# Altium footprint library DXPpcb.PCBLIB: 575 footprints (part 13 of 36)
Each footprint in its own frame and in the unit in brackets; x right, y up, seen from the top. Pads: shape width x height; smd on the part's side, far side on the other; paste and mask are expansions set on the pad; w line width, h text height; cw(c..) or ccw(c..) is an arc to the next point about the centre after c.
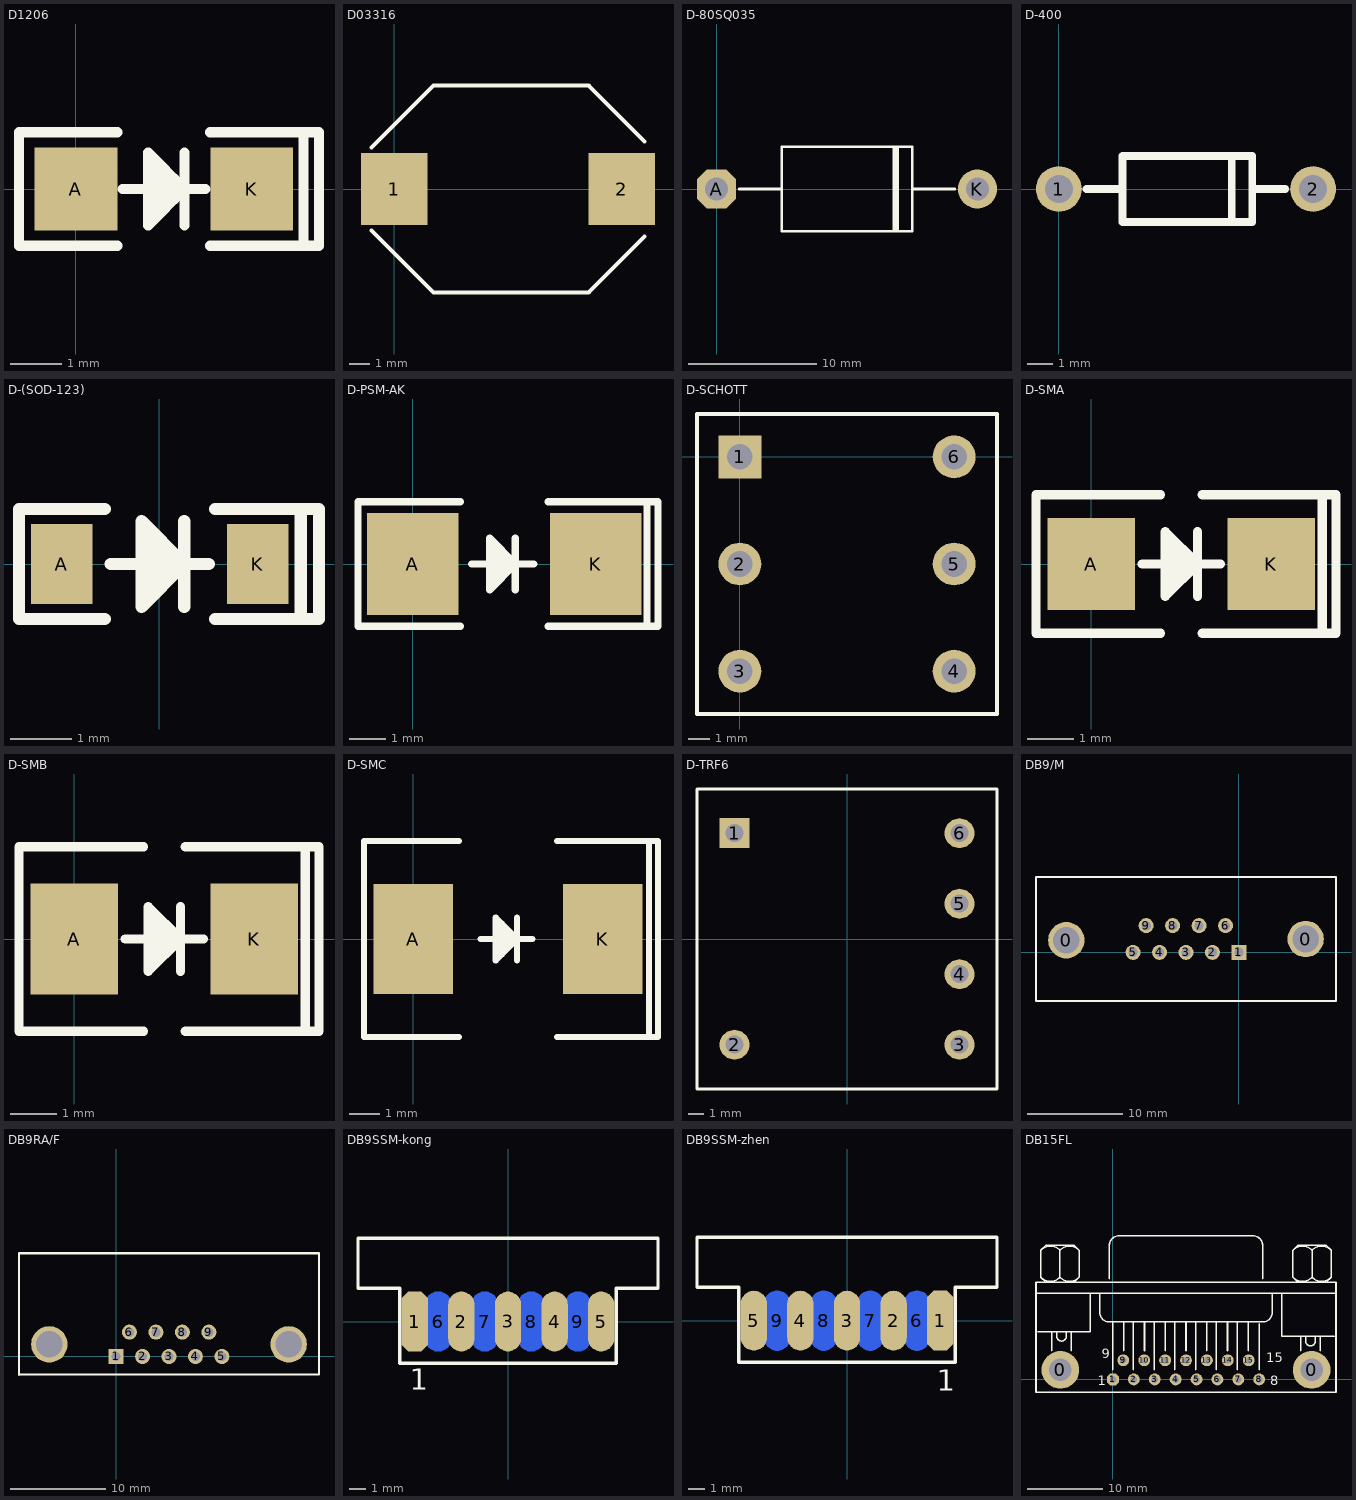
[diagram p12: the footprints below, top view; thin cyan lines are the x and y axes]

## D1206 [mm]
pads (2):
  rect 1.6x1.6 smd: A(0,0) K(3.4,0)
TopOverlay:
  lines w0.2: 0.8,-1.1 -1.1,-1.1 -1.1,1.1 0.8,1.1 ; 0.9,0 1.4,0 ; 1.6,-0.5 1.6,0.5 ; 1.8,-0.3 1.8,0.3 ; 1.9,-0.2 1.9,0.2 ; 2.1,-0.7 2.1,0.7 ; 2.5,0 2.1,0 ; 2.6,-1.1 4.7,-1.1 4.7,1.1 2.6,1.1 ; 4.4,-1.1 4.4,1.1 ; 1.4,0 1.4,-0.7 2.1,0 ; 1.4,0 1.4,0.7 2.1,0

## D03316 [mm]
pads (2):
  rect 3.2x3.5 smd: 1(0,0) 2(11,0)
TopOverlay:
  lines w0.2: -1.1,-2 1.9,-5 9.4,-5 12.1,-2.3 ; -1.1,2 1.9,5 9.4,5 12.1,2.3

## D-80SQ035 [mil]
pads (2):
  oct 120x120 hole 70: A(0,0)
  round 120 hole 70: K(800,0)
TopOverlay:
  rectangle: 540,-130 560,130
  lines w7.87: 70,0 200,0 ; 600,0 730,0 ; 200,-130 600,-130 600,130 200,130 200,-130

## D-400 [mm]
pads (2):
  round 1.8 hole 1.1: 1(0,0) 2(10,0)
TopOverlay:
  lines w0.3: 1.084,0 2.5,0 ; 6.8,-1.3 6.8,1.3 ; 7.6,0 8.9,0 ; 2.5,-1.3 7.6,-1.3 7.6,1.3 2.5,1.3 2.5,-1.3

## D-(SOD-123) [mm]
pads (2):
  rect 1x1.3 smd: A(-1.59,0.004) K(1.61,0.004)
TopOverlay:
  lines w0.2: -0.89,-0.896 -2.29,-0.896 -2.29,0.904 -0.89,0.904 ; -0.79,0.004 -0.29,0.004 ; -0.09,-0.496 -0.09,0.504 ; 0.11,-0.296 0.11,0.304 ; 0.21,-0.196 0.21,0.204 ; 0.41,-0.696 0.41,0.704 ; 0.81,0.004 0.41,0.004 ; 0.91,-0.896 2.61,-0.896 2.61,0.904 0.91,0.904 ; 2.31,-0.896 2.31,0.904 ; -0.29,0.004 -0.29,0.704 0.41,0.004 ; -0.29,0.004 -0.29,-0.696 0.41,0.004

## D-PSM-AK [mm]
pads (2):
  rect 2.5x2.8 smd: A(0,0) K(5,0)
TopOverlay:
  lines w0.2: 1.3,-1.7 -1.5,-1.7 -1.5,1.7 1.3,1.7 ; 1.6,0 2.1,0 ; 2.3,-0.5 2.3,0.5 ; 2.5,-0.3 2.5,0.3 ; 2.6,-0.2 2.6,0.2 ; 2.8,-0.7 2.8,0.7 ; 3.3,0 2.8,0 ; 3.7,-1.7 6.7,-1.7 6.7,1.7 3.7,1.7 ; 6.4,-1.7 6.4,1.7 ; 2.1,0 2.1,-0.7 2.8,0 ; 2.1,0 2.1,0.7 2.8,0

## D-SCHOTT [mm]
pads (6):
  rect 2x2 hole 1.2: 1(0,0)
  round 2 hole 1.2: 2(0,-5) 3(0,-10) 4(10,-10) 5(10,-5) 6(10,0)
TopOverlay:
  lines w0.2: -2,-12 12,-12 12,2 -2,2 -2,-12

## D-SMA [mm]
pads (2):
  rect 1.9x2 smd: A(0,0) K(3.9,0)
TopOverlay:
  lines w0.2: 1.1,0 1.6,0 ; 1.5,-1.5 -1.2,-1.5 -1.2,1.5 1.5,1.5 ; 1.8,-0.5 1.8,0.5 ; 2,-0.3 2,0.3 ; 2.1,-0.2 2.1,0.2 ; 2.3,-0.7 2.3,0.7 ; 2.4,-1.5 5.3,-1.5 5.3,1.5 2.4,1.5 ; 2.8,0 2.3,0 ; 5,-1.5 5,1.5 ; 1.6,0 1.6,-0.7 2.3,0 ; 1.6,0 1.6,0.7 2.3,0

## D-SMB [mm]
pads (2):
  rect 1.9x2.4 smd: A(0,0) K(3.9,0)
TopOverlay:
  lines w0.2: 1.1,0 1.6,0 ; 1.5,-2 -1.2,-2 -1.2,2 1.5,2 ; 1.8,-0.5 1.8,0.5 ; 2,-0.3 2,0.3 ; 2.1,-0.2 2.1,0.2 ; 2.3,-0.7 2.3,0.7 ; 2.4,-2 5.3,-2 5.3,2 2.4,2 ; 2.8,0 2.3,0 ; 5,-2 5,2 ; 1.6,0 1.6,0.7 2.3,0 ; 1.6,0 1.6,-0.7 2.3,0

## D-SMC [mm]
pads (2):
  rect 2.6x3.6 smd: A(0,0) K(6.2,0)
TopOverlay:
  lines w0.2: 1.5,-3.2 -1.6,-3.2 -1.6,3.2 1.5,3.2 ; 2.2,0 2.7,0 ; 2.9,-0.5 2.9,0.5 ; 3.1,-0.3 3.1,0.3 ; 3.2,-0.2 3.2,0.2 ; 3.4,-0.7 3.4,0.7 ; 3.9,0 3.4,0 ; 4.7,-3.2 8,-3.2 8,3.2 4.7,3.2 ; 7.7,-3.1 7.7,3.2 ; 2.7,0 2.7,0.7 3.4,0 ; 2.7,0 2.7,-0.7 3.4,0

## D-TRF6 [mm]
pads (6):
  rect 2x2 hole 1.2: 1(-7.5,7.05)
  round 2 hole 1.2: 2(-7.5,-7.05) 3(7.5,-7.05) 4(7.5,-2.35) 5(7.5,2.35) 6(7.5,7.05)
TopOverlay:
  lines w0.2: -10,-10 -10,10 10,10 10,-10 -10,-10

## DB9/M [mil]
pads (11):
  round 150 hole 110: 0(-711,50) 0(275,55)
  rect 62x62 hole 38: 1(0,0)
  round 62 hole 38: 2(-109,0) 3(-218,0) 4(-327,0) 5(-436,0) 6(-55,110) 7(-164,110) 8(-273,110) 9(-382,110)
TopOverlay:
  lines w7.87: -836,-200 -836,310 400,310 400,-200 -836,-200

## DB9RA/F [mil]
pads (11):
  rect 62x62 hole 38: 1(-0.09,-0.45)
  round 62 hole 38: 2(108.91,-0.45) 3(217.91,-0.45) 4(326.91,-0.45) 5(435.91,-0.45) 6(54.91,99.55) 7(163.91,99.55) 8(272.91,99.55) 9(381.91,99.55)
  round 150 hole 110: ""(-275.09,49.55) ""(710.91,49.55)
TopOverlay:
  lines w8: -400.09,-75.45 835.91,-75.45 835.91,424.55
  lines w10: -400.09,-75.45 -400.09,424.55 835.91,424.55

## DB9SSM-kong [mil]
pads (9):
  oct 62.5x141.67 smd: 1(-220,0)
  oval 62.5x141.67 smd: 2(-110,0) 3(0,0) 4(110,0) 5(220,0)
  oval 62.5x141.67 smd far side: 6(-165,0) 7(-55,0) 8(55.12,0) 9(165.35,0)
TopOverlay:
  lines w7.87: -354.33,78.74 -354.33,196.85 354.33,196.85 354.33,78.74 255.91,78.74 255.91,-98.43 -255.91,-98.43 -255.91,78.74 -354.33,78.74
  text "1" at -232.28,-161.42 h50

## DB9SSM-zhen [mil]
pads (9):
  oct 62.5x141.67 smd: 1(220,0)
  oval 62.5x141.67 smd: 2(110,0) 3(0,0) 4(-110,0) 5(-220,0)
  oval 62.5x141.67 smd far side: 6(165.35,0) 7(55,0) 8(-55,0) 9(-165,0)
TopOverlay:
  lines w7.87: -354.33,78.74 -255.91,78.74 -255.91,-98.43 255.91,-98.43 255.91,78.74 354.33,78.74 354.33,196.85 -354.33,196.85 -354.33,78.74
  text "1" at 212.6,-165.35 h50

## DB15FL [mil]
pads (17):
  round 196.67 hole 118.33: 0(-274.17,50) 0(1037.5,50)
  oct 62x62 hole 35: 1(0,0)
  round 62 hole 35: 2(109.17,0) 3(218.33,0) 4(327.5,0) 5(436.67,0) 6(545.83,0) 7(655,0) 8(764.17,0) 9(54.17,100) 10(163.33,100) 11(272.5,100) 12(381.67,100) 13(490.83,100) 14(600,100) 15(709.17,100)
TopOverlay:
  lines w8: -401.67,450 1165,450 ; -393.33,250 -118.33,250 -118.33,450 ; -376.75,533.25 ccw(c-326.67,583.33) -276.58,533.25 ; -376.75,675.09 cw(c-326.67,625) -276.58,675.09 ; -351.67,508.33 -376.67,533.33 -376.67,675 -351.67,700 -201.67,700 -176.67,675 -176.67,533.33 -201.67,508.33 ; -318.33,150 -318.33,250 ; -293.33,250 -293.33,225 ccw(c-268.33,225) -243.33,225 -243.33,250 ; -276.75,533.25 ccw(c-226.67,583.33) -176.58,533.25 ; -276.75,675.09 cw(c-226.67,625) -176.58,675.09 ; -276.67,533.33 -276.67,675 ; -218.33,150 -218.33,250 ; -68.33,450 -68.33,350 ccw(c-18.33,350) -18.33,300 781.67,300 ccw(c781.67,350) 831.67,350 831.67,450 ; -18.33,525 -18.33,700 cw(c31.67,700) 31.67,750 731.67,750 cw(c731.67,700) 781.67,700 781.67,525 ; -1.67,50 -1.67,300 ; 56.67,150 56.67,300 ; 106.67,50 106.67,300 ; 165,150 165,300 ; 215,50 215,300 ; 273.33,150 273.33,300 ; 323.33,50 323.33,300 ; 381.67,150 381.67,300 ; 431.67,50 431.67,300 ; 490,150 490,300 ; 540,50 540,300 ; 598.33,150 598.33,300 ; 648.33,50 648.33,300 ; 706.67,150 706.67,300 ; 765,50 765,291.67 ; 881.67,450 881.67,225 1156.67,225 ; 939.91,533.25 ccw(c990,583.33) 1040.09,533.25 ; 939.91,675.09 cw(c990,625) 1040.09,675.09 ; 965,508.33 940,533.33 940,675 965,700 1115,700 1140,675 1140,533.33 1115,508.33 ; 981.67,150 981.67,225 ; 1006.67,225 1006.67,200 ccw(c1031.67,200) 1056.67,200 1056.67,225 ; 1039.91,533.25 ccw(c1090,583.33) 1140.09,533.25 ; 1039.91,675.09 cw(c1090,625) 1140.09,675.09 ; 1040,533.33 1040,675 ; 1081.67,150 1081.67,225 ; -401.67,-66.67 -401.67,508.33 1165,508.33 1165,-66.67 -401.67,-66.67
  text "8" at 821.67,-30 h50
  text "15" at 801.67,90 h50
  text "9" at -58.33,110 h50
  text "1" at -78.33,-30 h50